# Altium footprint library DRV0006A.PcbLib: 1 footprints
Each footprint in its own frame and in the unit in brackets; x right, y up, seen from the top. Pads: shape width x height; smd on the part's side, far side on the other; paste and mask are expansions set on the pad; w line width, h text height; cw(c..) or ccw(c..) is an arc to the next point about the centre after c.
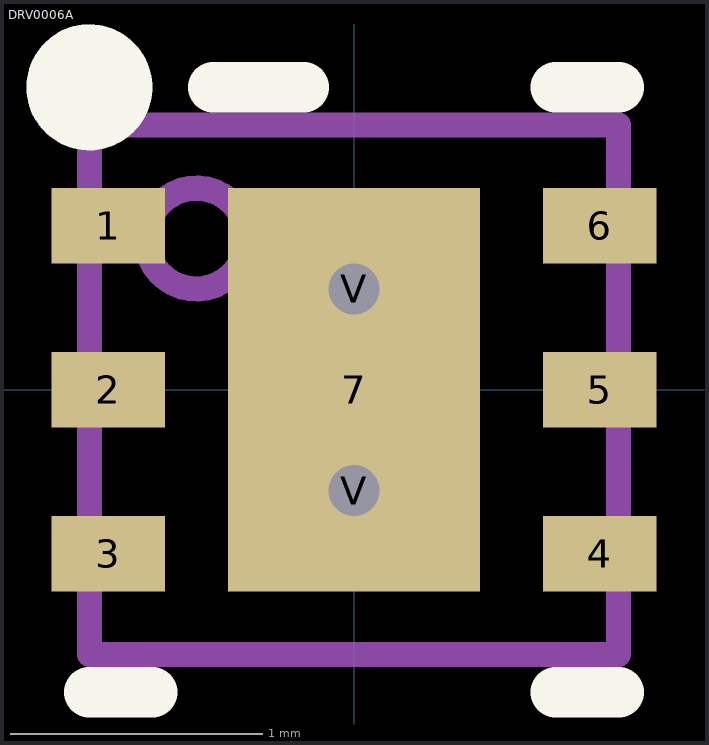
[diagram p0: the footprint, top view; thin cyan lines are the x and y axes]

## DRV0006A [mm]
pads (9):
  rect 0.45x0.3 smd paste+0 mask+0.051: 1(-0.975,0.65) 2(-0.975,0) 3(-0.975,-0.65) 4(0.975,-0.65) 5(0.975,0) 6(0.975,0.65)
  rect 1x1.6 smd paste-0.5 mask+0.051: 7(0,0)
  round 0.5 hole 0.203 mask+0.051: V(0,-0.4) V(0,0.4)
Top Overlay:
  circle w0.25: c-1.05,1.2 r0.125
  lines w0.2: -1.05,-1.2 -0.8,-1.2 ; -0.559,1.2 -0.2,1.2 ; 0.8,-1.2 1.05,-1.2 ; 0.8,1.2 1.05,1.2
Top Paste:
  region: -0.474,-0.733 0.475,-0.733 0.475,0.733 -0.474,0.733
Mechanical 13:
  circle w0.1: c-0.625,0.6 r0.2
  lines w0.1: -1.05,-1.05 -1.05,1.05 1.05,1.05 1.05,-1.05 -1.05,-1.05
3D body: height 0.25, standoff 0, extent 0,0 0.254,0.254
3D body "DRV0006A.stp": height 0.8, standoff 0, extent -1,-1 1,1